# EAGLE library part TOTX1952 (library reprapltd)
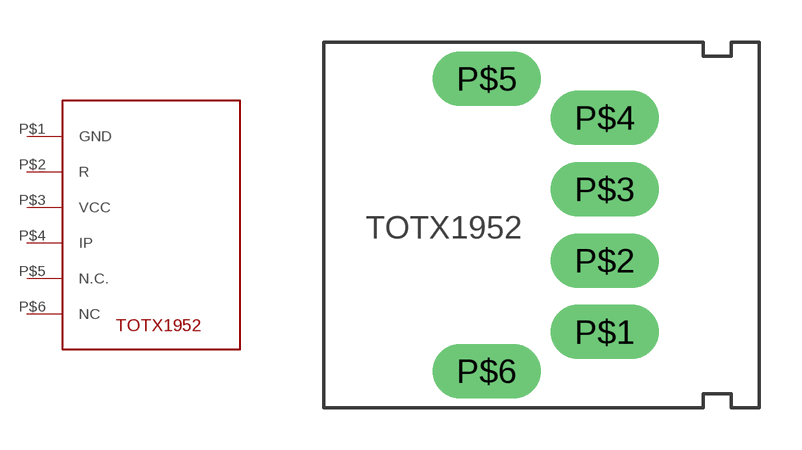
[diagram p1: symbol with the pads of TOTX1952; footprint TOTX1952]

Designator prefix -

## TOTX1952  [TOTX1952]
P$1  GND  pwr
P$2  R
P$3  VCC  pwr
P$4  IP  in
P$5  N.C.  nc
P$6  NC  nc

## Footprint TOTX1952 (pad centres in mm)
drill 0.8 pad 1.93 long: P$1 0,-3.81; P$2 0,-1.27; P$3 0,1.27; P$4 0,3.81; P$5 -4.2,5.2; P$6 -4.2,-5.2